# EAGLE library part SI530 (library Schuyler)
Crystal Oscillator from Silicon Labs. Factory progrramed between 0.01 and 1.4 GHz.
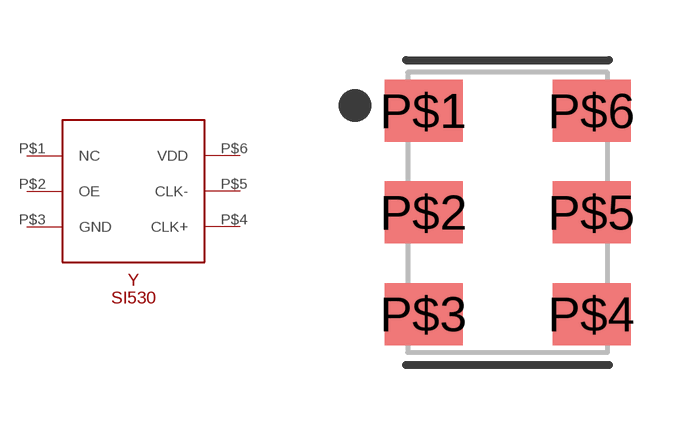
[diagram p14: symbol with the pads of SI530; footprint SI530]

Designator prefix Y

## SI530 (SUPPLIER: SILICON LABS), SI530-500 (PARTNUMBER: 530FC500M000DG; SUPPLIER: SILICON LABS)  [SI530]
P$1  NC  nc
P$2  OE  in
P$3  GND  pwr
P$4  CLK+  out
P$5  CLK-  out
P$6  VDD  pwr

## Footprint SI530 (pad centres in mm)
smd 1.95 x 1.55: P$1 -2.1,2.54; P$2 -2.1,0; P$3 -2.1,-2.54; P$4 2.1,-2.54; P$5 2.1,0; P$6 2.1,2.54